# Altium schematic symbol library 4.0_30P原理图库.SchLib: 6 symbols
Pins are listed as number, name and electrical type; pins without a type are passive.

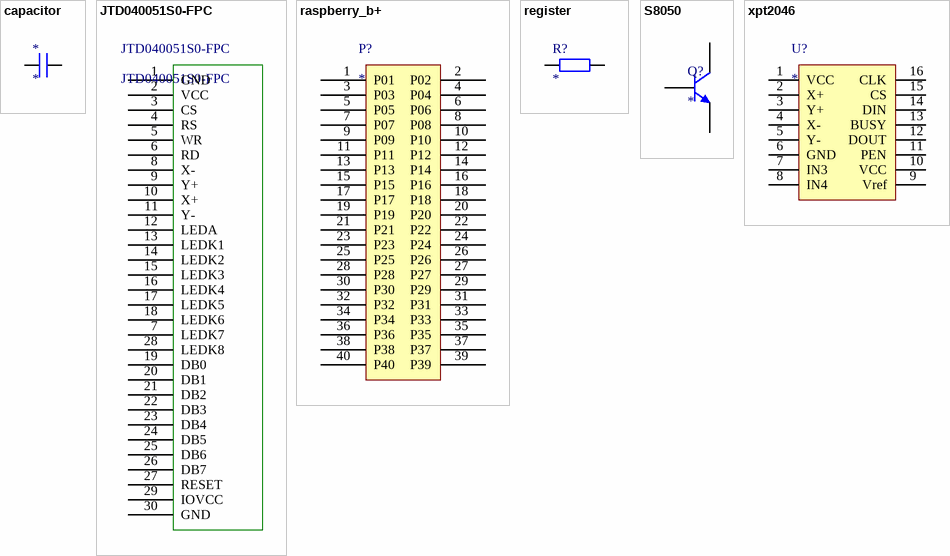
[diagram p0: symbols capacitor to xpt2046]

## capacitor
designator *
footprint 1206
pins: 1, 2

## JTD040051S0-FPC
designator JTD040051S0-FPC
footprint JTD040051S0-FPC
pins: 1 GND, 2 VCC, 3 CS, 4 RS, 5 WR, 6 RD, 7 LEDK7, 8 X-, 9 Y+, 10 X+, 11 Y-, 12 LEDA, 13 LEDK1, 14 LEDK2, 15 LEDK3, 16 LEDK4, 17 LEDK5, 18 LEDK6, 19 DB0, 20 DB1, 21 DB2, 22 DB3, 23 DB4, 24 DB5, 25 DB6, 26 DB7, 27 RESET, 28 LEDK8, 29 IOVCC, 30 GND

## raspberry_b+
designator P?
footprint raspberry_b+
pins: 1 P01, 2 P02, 3 P03, 4 P04, 5 P05, 6 P06, 7 P07, 8 P08, 9 P09, 10 P10, 11 P11, 12 P12, 13 P13, 14 P14, 15 P15, 16 P16, 17 P17, 18 P18, 19 P19, 20 P20, 21 P21, 22 P22, 23 P23, 24 P24, 25 P25, 26 P26, 27 P27, 28 P28, 29 P29, 30 P30, 31 P31, 32 P32, 33 P33, 34 P34, 35 P35, 36 P36, 37 P37, 38 P38, 39 P39, 40 P40

## register
designator R?
footprint 1206
pins: 1, 2

## S8050
designator Q?
footprint SOT23
pins: 1 E, 2 B, 3 C

## xpt2046
designator U?
footprint TSSOP16
pins: 1 VCC, 2 X+, 3 Y+, 4 X-, 5 Y-, 6 GND, 7 IN3, 8 IN4, 9 Vref, 10 VCC, 11 PEN, 12 DOUT, 13 BUSY, 14 DIN, 15 CS, 16 CLK